# Altium footprint library to220.PcbLib: 1 footprints
Each footprint in its own frame and in the unit in brackets; x right, y up, seen from the top. Pads: shape width x height; smd on the part's side, far side on the other; paste and mask are expansions set on the pad; w line width, h text height; cw(c..) or ccw(c..) is an arc to the next point about the centre after c.
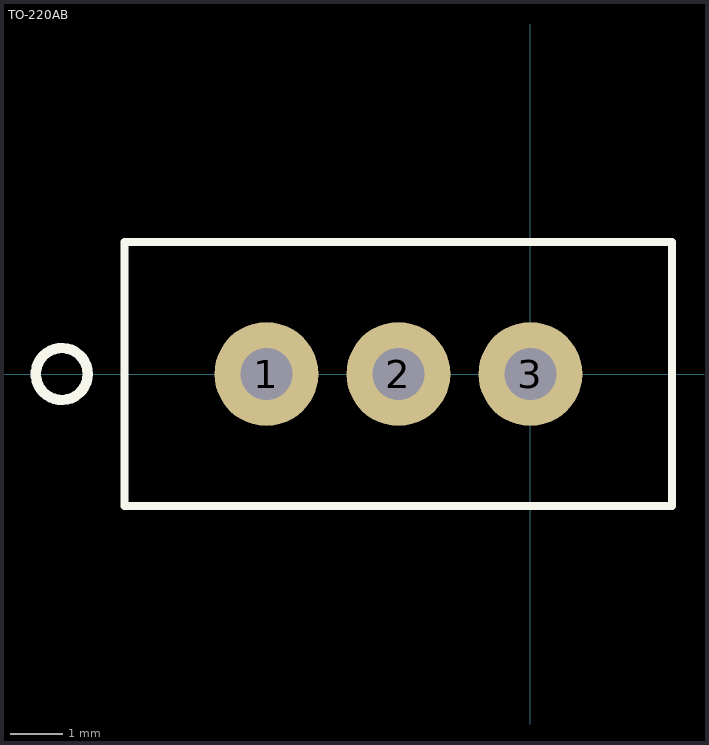
[diagram p0: the footprint, top view; thin cyan lines are the x and y axes]

## TO-220AB [mm]
pads (3):
  round 2 hole 1 paste+0 mask+0: 1(-5.08,0) 2(-2.54,0) 3(0,0)
Top Overlay:
  circle w0.2: c-9.017,0 r0.5
  lines w0.152: -7.81,-2.54 -7.81,2.54 2.73,2.54 2.73,-2.54 -7.81,-2.54
3D body: height 0.25, standoff 0, extent 0,0 0.254,0.254